# EAGLE library part RN1907_SMINI6-F3-B_DMC56404 (library BeagleBone_Black_egl)
RN1907_SMINI6-F3-B_DMC56404
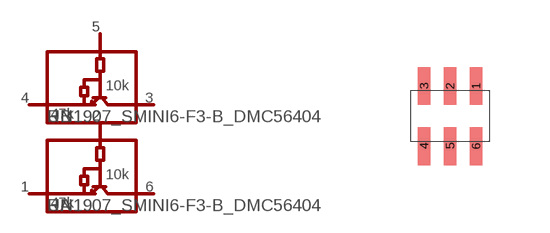
[diagram p19: symbol with the pads of SMINI6-F3-B; footprint SMINI6-F3-B]

Designator prefix -; gates A=RN1907_MX B=RN1907_MX

## RN1907_SMINI6-F3-B_DMC56404  [SMINI6-F3-B]
1  A:1
2  A:3
3  B:2
4  B:1
5  B:3
6  A:2

## Footprint SMINI6-F3-B (pad centres in mm)
smd 0.305 x 0.95: 1 0.65,0.75; 2 0,0.75; 3 -0.65,0.75; 4 -0.65,-0.75; 5 0,-0.75; 6 0.65,-0.75